# Altium schematic symbol library HDR_1X2_BB.SchLib: 1 symbol
Pins are listed as number, name and electrical type; pins without a type are passive.

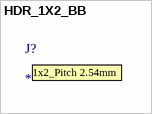
[diagram p0: symbol HDR_1X2_BB]

## HDR_1X2_BB
designator J?  (mechanical)
WR-PHD 2.54mm Pin Header
text: 1x2_Pitch 2.54mm